# EAGLE library part JST-10 (library con-jst-gh)
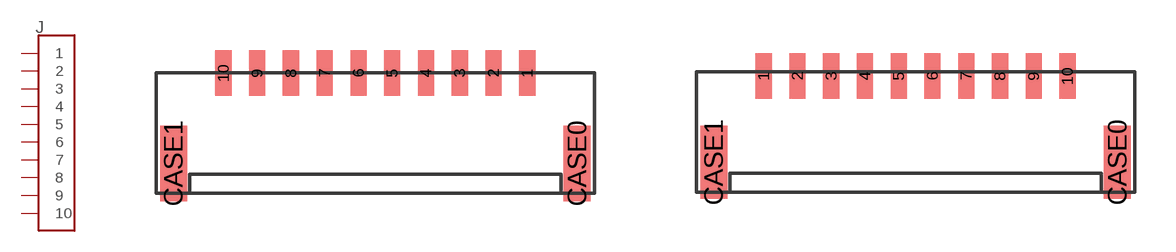
[diagram p1: symbol with the pads of BM10B-GHS; footprints BM10B-GHS, SM10B-GHS]

Designator prefix J

## JST-10TOP  [BM10B-GHS]
1  1
2  2
3  3
4  4
5  5
6  6
7  7
8  8
9  9
10  10

## JST-10SIDE  [SM10B-GHS]
Pads as for BM10B-GHS

## Footprint BM10B-GHS (pad centres in mm)
smd 0.6 x 1.7: 1 5.625,2.5; 2 4.375,2.5; 3 3.125,2.5; 4 1.875,2.5; 5 0.625,2.5; 6 -0.625,2.5; 7 -1.875,2.5; 8 -3.125,2.5; 9 -4.375,2.5; 10 -5.625,2.5
smd 1 x 2.8: CASE0 7.475,-0.85; CASE1 -7.475,-0.85

## Footprint SM10B-GHS (pad centres in mm)
smd 0.6 x 1.7: 1 -5.625,2.05; 2 -4.375,2.05; 3 -3.125,2.05; 4 -1.875,2.05; 5 -0.625,2.05; 6 0.625,2.05; 7 1.875,2.05; 8 3.125,2.05; 9 4.375,2.05; 10 5.625,2.05
smd 1 x 2.7: CASE0 7.475,-1.15; CASE1 -7.475,-1.15